# Altium footprint library GPSR_v2.PcbLib: 22 footprints (part 1 of 2)
Each footprint in its own frame and in the unit in brackets; x right, y up, seen from the top. Pads: shape width x height; smd on the part's side, far side on the other; paste and mask are expansions set on the pad; w line width, h text height; cw(c..) or ccw(c..) is an arc to the next point about the centre after c.
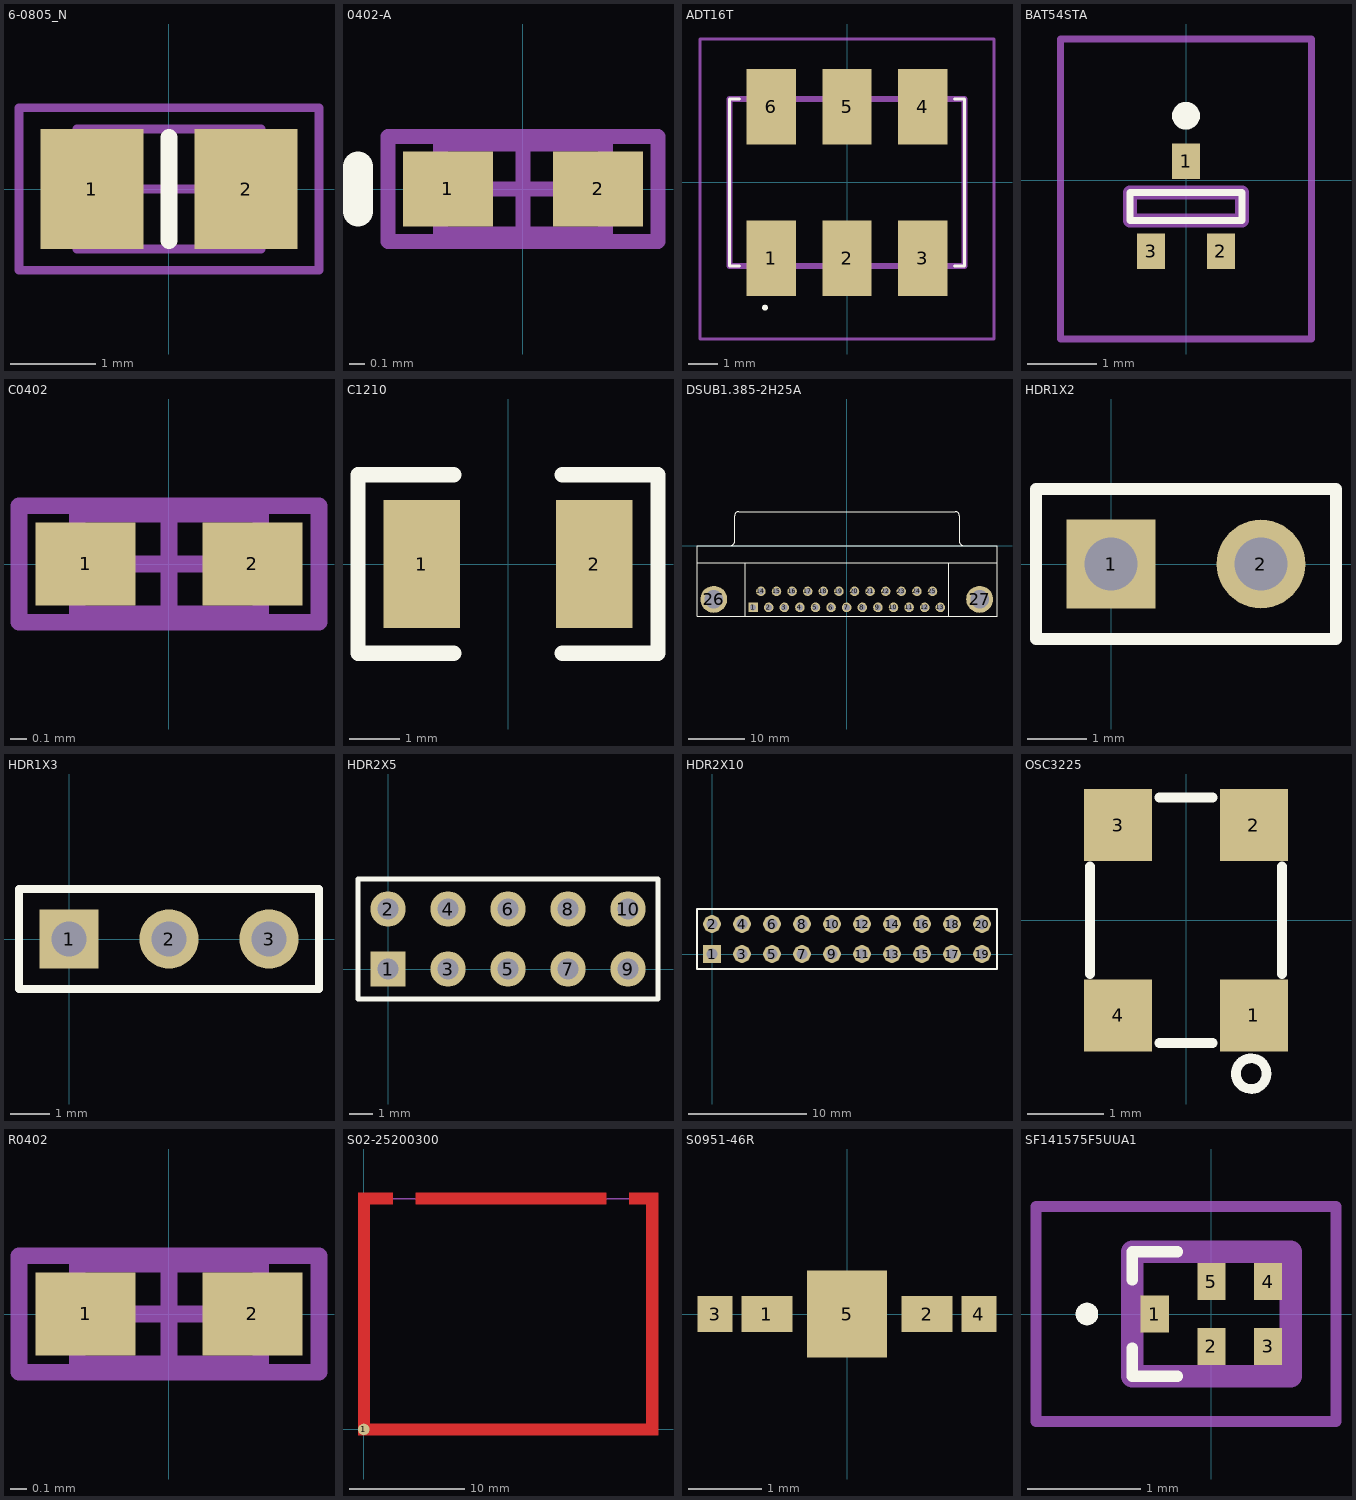
[diagram p0: the footprints below, top view; thin cyan lines are the x and y axes]

## 6-0805_N [mm] "Chip Resistor, Body 2.0x1.2mm, IPC Medium Density"
height 0.7
pads (2):
  rect 1.2x1.4 smd: 1(-0.9,0) 2(0.9,0)
Top Overlay:
  lines w0.2: 0,-0.6 0,0.6
Mechanical 13:
  lines w0.1: -1.075,-0.7 -1.075,0.7 1.075,0.7 1.075,-0.7 -1.075,-0.7
Mechanical 15:
  lines w0.1: -0.5,0 0.5,0 ; 0,-0.5 0,0.5 ; -1.75,-0.95 -1.75,0.95 1.75,0.95 1.75,-0.95 -1.75,-0.95
3D body: height 0.7, standoff 0, extent -1.075,-0.7 1.075,0.7

## 0402-A [mm] "Chip Inductor, Body 1.0x0.5mm, IPC High Density"
height 0.55
pads (2):
  rect 0.6x0.5 smd: 1(-0.5,0) 2(0.5,0)
Top Overlay:
  lines w0.2: -1.1,-0.15 -1.1,0.15
Mechanical 13:
  lines w0.1: -0.55,-0.3 -0.55,0.3 0.55,0.3 0.55,-0.3 -0.55,-0.3
Mechanical 15:
  lines w0.1: -0.3,0 0.3,0 ; 0,-0.3 0,0.3 ; -0.9,-0.35 -0.9,0.35 0.9,0.35 0.9,-0.35 -0.9,-0.35
3D body: height 0.55, standoff 0, extent -0.55,-0.3 0.55,0.3

## ADT16T [mm]
pads (6):
  rect 1.65x2.54 smd: 1(-2.54,-2.54) 2(0,-2.54) 3(2.54,-2.54) 4(2.54,2.54) 5(0,2.54) 6(-2.54,2.54)
Top Overlay:
  lines w0.1: -3.6,-2.8 -3.935,-2.8 -3.935,2.8 -3.6,2.8 ; 3.6,-2.8 3.935,-2.8 3.935,2.8 3.6,2.8 ; -2.8,-4.2 ccw(c-2.75,-4.2) -2.7,-4.2 ccw(c-2.75,-4.2) -2.8,-4.2
Mechanical 13:
  lines w0.2: -3.935,-2.795 3.935,-2.795 3.935,2.795 -3.935,2.795 -3.935,-2.795
Mechanical 15:
  lines w0.1: -4.935,-5.25 4.935,-5.25 4.935,4.81 -4.935,4.81 -4.935,-5.25

## BAT54STA [mm]
pads (3):
  rect 0.4x0.51 smd: 1(0,0.268) 2(0.5,-1.022) 3(-0.5,-1.022)
Top Overlay:
  lines w0.1: -0.8,-0.577 0.8,-0.577 0.8,-0.177 -0.8,-0.177 -0.8,-0.577
  lines w0.2: -0.1,0.923 cw(c-0.001,0.923) 0.099,0.923 cw(c-0.001,0.923) -0.1,0.923
Mechanical 13:
  lines w0.2: -0.8,-0.577 0.8,-0.577 0.8,-0.177 -0.8,-0.177 -0.8,-0.577
Mechanical 15:
  lines w0.1: -1.8,-2.277 1.8,-2.277 1.8,2.022 -1.8,2.022 -1.8,-2.277

## C0402 [mm]
pads (2):
  rect 0.6x0.5 smd: 1(-0.5,0) 2(0.5,0)
Mechanical 13:
  lines w0.1: -0.55,-0.3 -0.55,0.3 0.55,0.3 0.55,-0.3 -0.55,-0.3
Mechanical 15:
  lines w0.1: -0.3,0 0.3,0 ; 0,-0.3 0,0.3 ; -0.9,-0.35 -0.9,0.35 0.9,0.35 0.9,-0.35 -0.9,-0.35
3D body: height 1.3, standoff 0, extent -0.55,-0.3 0.55,0.3

## C1210 [mil]
pads (2):
  rect 60x100 smd: 1(-67.5,0) 2(67.5,0)
Top Overlay:
  lines w12: -42.5,-70 -117.5,-70 -117.5,70 -42.5,70 ; 42.5,-70 117.5,-70 117.5,70 42.5,70

## DSUB1.385-2H25A [mm] "Connector; D Subminiature; 25 Position; Right Angle; Pitch 1.385 mm"
height 12.93
pads (27):
  rect 1.69x1.69 hole 1.09: 1(-16.566,-10.92)
  round 1.69 hole 1.09: 2(-13.805,-10.92) 3(-11.044,-10.92) 4(-8.283,-10.92) 5(-5.522,-10.92) 6(-2.761,-10.92) 7(0,-10.92) 8(2.761,-10.92) 9(5.522,-10.92) 10(8.283,-10.92) 11(11.044,-10.92) 12(13.805,-10.92) 13(16.566,-10.92) 14(-15.185,-8.08) 15(-12.424,-8.08) 16(-9.663,-8.08) 17(-6.902,-8.08) 18(-4.141,-8.08) 19(-1.38,-8.08) 20(1.381,-8.08) 21(4.142,-8.08) 22(6.903,-8.08) 23(9.664,-8.08) 24(12.425,-8.08) 25(15.186,-8.08)
  round 4.76 hole 3.26: 26(-23.526,-9.5) 27(23.526,-9.5)
Top Overlay:
  lines w0.2: -26.496,-3 26.604,-3 ; -20.541,0.005 ccw(c-20.541,0.7) -19.846,0.7 -19.846,5.3 ; -19.841,5.305 cw(c-19.146,5.305) -19.146,6 19.254,6 cw(c19.254,5.305) 19.949,5.305 ; -17.946,-12.5 -17.946,-3 ; 18.054,-12.5 18.054,-3 ; 19.954,5.3 19.954,0.7 ccw(c20.649,0.7) 20.649,0.005 ; -26.496,-12.5 -26.496,0 26.604,0 26.604,-12.5 -26.496,-12.5

## HDR1X2 [mm] "Connector; Header; 2 Position"
pads (2):
  rect 1.5x1.5 hole 0.9: 1(0,0)
  round 1.5 hole 0.9: 2(2.54,0)
Top Overlay:
  lines w0.2: -1.27,-1.27 3.81,-1.27 3.81,1.27 -1.27,1.27 -1.27,-1.27

## HDR1X3 [mm] "Connector; Header; 3 Position"
pads (3):
  rect 1.5x1.5 hole 0.9: 1(0,0)
  round 1.5 hole 0.9: 2(2.54,0) 3(5.08,0)
Top Overlay:
  lines w0.2: -1.27,-1.27 -1.27,1.27 6.35,1.27 6.35,-1.27 -1.27,-1.27

## HDR2X5 [mm] "Connector; Header; 5x2 Position"
pads (10):
  rect 1.5x1.5 hole 0.9: 1(0,0)
  round 1.5 hole 0.9: 2(0,2.54) 3(2.54,0) 4(2.54,2.54) 5(5.08,0) 6(5.08,2.54) 7(7.62,0) 8(7.62,2.54) 9(10.16,0) 10(10.16,2.54)
Top Overlay:
  lines w0.2: -1.27,-1.27 -1.27,3.81 11.43,3.81 11.43,-1.27 -1.27,-1.27

## HDR2X10 [mm] "Connector; Header; 10x2 Position"
pads (20):
  rect 1.5x1.5 hole 0.9: 1(0,0)
  round 1.5 hole 0.9: 2(0,2.54) 3(2.54,0) 4(2.54,2.54) 5(5.08,0) 6(5.08,2.54) 7(7.62,0) 8(7.62,2.54) 9(10.16,0) 10(10.16,2.54) 11(12.7,0) 12(12.7,2.54) 13(15.24,0) 14(15.24,2.54) 15(17.78,0) 16(17.78,2.54) 17(20.32,0) 18(20.32,2.54) 19(22.86,0) 20(22.86,2.54)
Top Overlay:
  lines w0.2: -1.27,-1.27 -1.27,3.81 0.635,3.81 24.13,3.81 24.13,-1.27 0.635,-1.27 -1.27,-1.27

## OSC3225 [mm]
pads (4):
  rect 0.89x0.94 smd: 1(0.885,-1.24) 2(0.885,1.24) 3(-0.885,1.24) 4(-0.885,-1.24)
Top Overlay:
  circle w0.127: c0.85,-2 r0.2
  lines w0.127: -1.25,-0.7 -1.25,0.7 ; -0.35,-1.6 0.35,-1.6 ; -0.35,1.6 0.35,1.6 ; 1.25,-0.7 1.25,0.7

## R0402 [mm]
pads (2):
  rect 0.6x0.5 smd: 1(-0.5,0) 2(0.5,0)
Mechanical 13:
  lines w0.1: -0.55,-0.3 0.55,-0.3 0.55,0.3 -0.55,0.3 -0.55,-0.3
Mechanical 15:
  lines w0.1: -0.3,0 0.3,0 ; 0,-0.3 0,0.3 ; -0.9,-0.35 0.9,-0.35 0.9,0.35 -0.9,0.35 -0.9,-0.35
3D body: height 1.3, standoff 0, extent -0.55,-0.3 0.55,0.3

## S02-25200300 [mm]
pads (1):
  round 1 smd: 1(0,0)
Top Layer:
  region: 2.5,20.5 2.5,19.5 0.5,19.5 0.5,20.5
  region: 24.5,19.5 23,19.5 23,20.5 24.5,20.5
  region: -0.5,20.5 0.5,20.5 0.5,-0.5 -0.5,-0.5
  region: 0.5,-0.5 25.5,-0.5 25.5,0.5 0.5,0.5
  region: 25.5,0.5 25.5,20.5 24.5,20.5 24.5,0.5
  region: 4.5,19.5 4.5,20.5 21,20.5 21,19.5
Mechanical 1:
  lines w0.127: 0,0 0,20 25,20 25,6 25,0 0,0

## S0951-46R [mm]
pads (5):
  rect 0.7x0.5 smd: 1(-1.1,0) 2(1.1,0)
  rect 0.48x0.5 smd: 3(-1.81,0) 4(1.81,0)
  rect 1.1x1.2 smd: 5(0,0)

## SF141575F5UUA1 [mm]
pads (5):
  rect 0.25x0.325 smd: 1(-0.5,0) 2(0,-0.287) 3(0.5,-0.287) 4(0.5,0.287) 5(0,0.287)
Top Overlay:
  lines w0.1: -0.7,-0.3 -0.7,-0.55 -0.3,-0.55 ; -0.7,0.3 -0.7,0.55 -0.3,0.55 ; -1.1,-0.05 cw(c-1.1,0) -1.1,0.05 cw(c-1.1,0) -1.1,-0.05
Mechanical 13:
  lines w0.2: -0.7,-0.55 -0.7,0.55 0.7,0.55 0.7,-0.55 -0.7,-0.55
Mechanical 15:
  lines w0.1: -1.55,-0.95 -1.55,0.95 1.1,0.95 1.1,-0.95 -1.55,-0.95
3D body "SF14-1575F5UUA1.stp": height 0.8, standoff 0, extent -0.7,-0.55 0.7,0.55